# EAGLE library part ATMEGA324*A (library atmel)
8-bit AVR Microcontroller 32 kbytes flash 2k bytes SRAM 1k bytes EEPROM dual USART SPI, I2C 8-channel 10 bit ADC
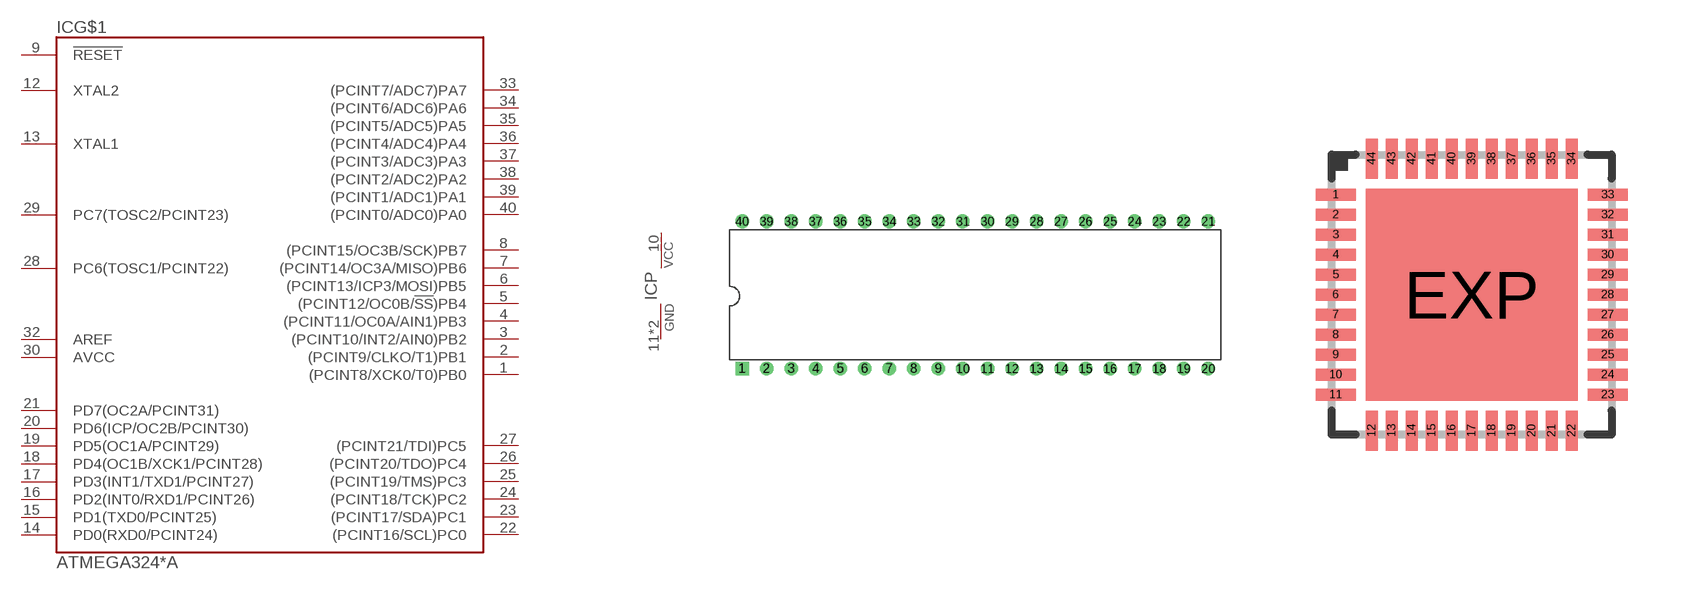
[diagram p52: symbol with the pads of DIL40; footprints DIL40, QFN44_7X7_0.50]

Designator prefix IC; gates G$1=MEGA644A P=PWR

## ATMEGA324A-PU, ATMEGA324PA-PU  [DIL40]
1  G$1:(PCINT8/XCK0/T0)PB0
2  G$1:(PCINT9/CLKO/T1)PB1
3  G$1:(PCINT10/INT2/AIN0)PB2
4  G$1:(PCINT11/OC0A/AIN1)PB3
5  G$1:(PCINT12/OC0B/!SS!)PB4
6  G$1:(PCINT13/ICP3/MOSI)PB5
7  G$1:(PCINT14/OC3A/MISO)PB6
8  G$1:(PCINT15/OC3B/SCK)PB7
9  G$1:!RESET  in
10  P:VCC  pwr
11  P:GND  pwr
12  G$1:XTAL2
13  G$1:XTAL1
14  G$1:PD0(RXD0/PCINT24)
15  G$1:PD1(TXD0/PCINT25)
16  G$1:PD2(INT0/RXD1/PCINT26)
17  G$1:PD3(INT1/TXD1/PCINT27)
18  G$1:PD4(OC1B/XCK1/PCINT28)
19  G$1:PD5(OC1A/PCINT29)
20  G$1:PD6(ICP/OC2B/PCINT30)
21  G$1:PD7(OC2A/PCINT31)
22  G$1:(PCINT16/SCL)PC0
23  G$1:(PCINT17/SDA)PC1
24  G$1:(PCINT18/TCK)PC2
25  G$1:(PCINT19/TMS)PC3
26  G$1:(PCINT20/TDO)PC4
27  G$1:(PCINT21/TDI)PC5
28  G$1:PC6(TOSC1/PCINT22)
29  G$1:PC7(TOSC2/PCINT23)
30  G$1:AVCC  pwr
31  P:GND  pwr
32  G$1:AREF  pas
33  G$1:(PCINT7/ADC7)PA7
34  G$1:(PCINT6/ADC6)PA6
35  G$1:(PCINT5/ADC5)PA5
36  G$1:(PCINT4/ADC4)PA4
37  G$1:(PCINT3/ADC3)PA3
38  G$1:(PCINT2/ADC2)PA2
39  G$1:(PCINT1/ADC1)PA1
40  G$1:(PCINT0/ADC0)PA0

## ATMEGA324PA-PN  [DIL40]
Pads as for DIL40

## ATMEGA324A-MU, ATMEGA324PA-MU  [QFN44_7X7_0.50]
1  G$1:(PCINT13/ICP3/MOSI)PB5
2  G$1:(PCINT14/OC3A/MISO)PB6
3  G$1:(PCINT15/OC3B/SCK)PB7
4  G$1:!RESET  in
5  P:VCC  pwr
6  P:GND  pwr
7  G$1:XTAL2
8  G$1:XTAL1
9  G$1:PD0(RXD0/PCINT24)
10  G$1:PD1(TXD0/PCINT25)
11  G$1:PD2(INT0/RXD1/PCINT26)
12  G$1:PD3(INT1/TXD1/PCINT27)
13  G$1:PD4(OC1B/XCK1/PCINT28)
14  G$1:PD5(OC1A/PCINT29)
15  G$1:PD6(ICP/OC2B/PCINT30)
16  G$1:PD7(OC2A/PCINT31)
17  P:VCC  pwr
18  P:GND  pwr
19  G$1:(PCINT16/SCL)PC0
20  G$1:(PCINT17/SDA)PC1
21  G$1:(PCINT18/TCK)PC2
22  G$1:(PCINT19/TMS)PC3
23  G$1:(PCINT20/TDO)PC4
24  G$1:(PCINT21/TDI)PC5
25  G$1:PC6(TOSC1/PCINT22)
26  G$1:PC7(TOSC2/PCINT23)
27  G$1:AVCC  pwr
28  P:GND  pwr
29  G$1:AREF  pas
30  G$1:(PCINT7/ADC7)PA7
31  G$1:(PCINT6/ADC6)PA6
32  G$1:(PCINT5/ADC5)PA5
33  G$1:(PCINT4/ADC4)PA4
34  G$1:(PCINT3/ADC3)PA3
35  G$1:(PCINT2/ADC2)PA2
36  G$1:(PCINT1/ADC1)PA1
37  G$1:(PCINT0/ADC0)PA0
38  P:VCC  pwr
39  P:GND  pwr
40  G$1:(PCINT8/XCK0/T0)PB0
41  G$1:(PCINT9/CLKO/T1)PB1
42  G$1:(PCINT10/INT2/AIN0)PB2
43  G$1:(PCINT11/OC0A/AIN1)PB3
44  G$1:(PCINT12/OC0B/!SS!)PB4
EXP  P:GND  pwr

## ATMEGA324PA-MN  [QFN44_7X7_0.50]
Pads as for QFN44_7X7_0.50

## ATMEGA324A-AU, ATMEGA324PA-AU  [QFP44_10X10_0.80]
1  G$1:(PCINT13/ICP3/MOSI)PB5
2  G$1:(PCINT14/OC3A/MISO)PB6
3  G$1:(PCINT15/OC3B/SCK)PB7
4  G$1:!RESET  in
5  P:VCC  pwr
6  P:GND  pwr
7  G$1:XTAL2
8  G$1:XTAL1
9  G$1:PD0(RXD0/PCINT24)
10  G$1:PD1(TXD0/PCINT25)
11  G$1:PD2(INT0/RXD1/PCINT26)
12  G$1:PD3(INT1/TXD1/PCINT27)
13  G$1:PD4(OC1B/XCK1/PCINT28)
14  G$1:PD5(OC1A/PCINT29)
15  G$1:PD6(ICP/OC2B/PCINT30)
16  G$1:PD7(OC2A/PCINT31)
17  P:VCC  pwr
18  P:GND  pwr
19  G$1:(PCINT16/SCL)PC0
20  G$1:(PCINT17/SDA)PC1
21  G$1:(PCINT18/TCK)PC2
22  G$1:(PCINT19/TMS)PC3
23  G$1:(PCINT20/TDO)PC4
24  G$1:(PCINT21/TDI)PC5
25  G$1:PC6(TOSC1/PCINT22)
26  G$1:PC7(TOSC2/PCINT23)
27  G$1:AVCC  pwr
28  P:GND  pwr
29  G$1:AREF  pas
30  G$1:(PCINT7/ADC7)PA7
31  G$1:(PCINT6/ADC6)PA6
32  G$1:(PCINT5/ADC5)PA5
33  G$1:(PCINT4/ADC4)PA4
34  G$1:(PCINT3/ADC3)PA3
35  G$1:(PCINT2/ADC2)PA2
36  G$1:(PCINT1/ADC1)PA1
37  G$1:(PCINT0/ADC0)PA0
38  P:VCC  pwr
39  P:GND  pwr
40  G$1:(PCINT8/XCK0/T0)PB0
41  G$1:(PCINT9/CLKO/T1)PB1
42  G$1:(PCINT10/INT2/AIN0)PB2
43  G$1:(PCINT11/OC0A/AIN1)PB3
44  G$1:(PCINT12/OC0B/!SS!)PB4

## ATMEGA324PA-AN  [QFP44_10X10_0.80]
Pads as for QFP44_10X10_0.80

## ATMEGA324A-CU, ATMEGA324PA-CU  [49C2]
A1  P:GND  pwr
A2  G$1:(PCINT12/OC0B/!SS!)PB4
A3  G$1:(PCINT10/INT2/AIN0)PB2
A4  P:GND  pwr
A5  P:VCC  pwr
A6  G$1:(PCINT2/ADC2)PA2
A7  P:GND  pwr
B1  G$1:(PCINT14/OC3A/MISO)PB6
B2  G$1:(PCINT13/ICP3/MOSI)PB5
B3  G$1:(PCINT11/OC0A/AIN1)PB3
B4  G$1:(PCINT8/XCK0/T0)PB0
B5  G$1:(PCINT0/ADC0)PA0
B6  G$1:(PCINT3/ADC3)PA3
B7  G$1:(PCINT5/ADC5)PA5
C1  P:VCC  pwr
C2  G$1:!RESET  in
C3  G$1:(PCINT15/OC3B/SCK)PB7
C4  G$1:(PCINT9/CLKO/T1)PB1
C5  G$1:(PCINT1/ADC1)PA1
C6  G$1:(PCINT6/ADC6)PA6
C7  G$1:AREF  pas
D1  P:GND  pwr
D2  G$1:XTAL2
D3  G$1:PD0(RXD0/PCINT24)
D4  P:GND  pwr
D5  G$1:(PCINT4/ADC4)PA4
D6  G$1:(PCINT7/ADC7)PA7
D7  P:GND  pwr
E1  G$1:XTAL1
E2  G$1:PD1(TXD0/PCINT25)
E3  G$1:PD5(OC1A/PCINT29)
E4  G$1:PD7(OC2A/PCINT31)
E5  G$1:(PCINT21/TDI)PC5
E6  G$1:PC7(TOSC2/PCINT23)
E7  G$1:AVCC  pwr
F1  G$1:PD2(INT0/RXD1/PCINT26)
F2  G$1:PD3(INT1/TXD1/PCINT27)
F3  G$1:PD6(ICP/OC2B/PCINT30)
F4  G$1:(PCINT16/SCL)PC0
F5  G$1:(PCINT18/TCK)PC2
F6  G$1:(PCINT20/TDO)PC4
F7  G$1:PC6(TOSC1/PCINT22)
G1  P:GND  pwr
G2  G$1:PD4(OC1B/XCK1/PCINT28)
G3  P:VCC  pwr
G4  P:GND  pwr
G5  G$1:(PCINT17/SDA)PC1
G6  G$1:(PCINT19/TMS)PC3
G7  P:GND  pwr

## ATMEGA324A-MCH, ATMEGA324PA-MCH  [QFN44-2R_5X5_0.70]
A1  G$1:(PCINT13/ICP3/MOSI)PB5
A2  G$1:(PCINT15/OC3B/SCK)PB7
A3  P:VCC  pwr
A4  G$1:XTAL2
A5  G$1:PD0(RXD0/PCINT24)
A6  G$1:PD2(INT0/RXD1/PCINT26)
A7  G$1:PD3(INT1/TXD1/PCINT27)
A8  G$1:PD5(OC1A/PCINT29)
A9  G$1:PD7(OC2A/PCINT31)
A10  P:GND  pwr
A11  G$1:(PCINT17/SDA)PC1
A12  G$1:(PCINT19/TMS)PC3
A13  G$1:(PCINT20/TDO)PC4
A14  G$1:PC6(TOSC1/PCINT22)
A15  G$1:AVCC  pwr
A16  G$1:AREF  pas
A17  G$1:(PCINT6/ADC6)PA6
A18  G$1:(PCINT4/ADC4)PA4
A19  G$1:(PCINT3/ADC3)PA3
A20  G$1:(PCINT1/ADC1)PA1
A21  P:VCC  pwr
A22  G$1:(PCINT8/XCK0/T0)PB0
A23  G$1:(PCINT10/INT2/AIN0)PB2
A24  G$1:(PCINT12/OC0B/!SS!)PB4
B1  G$1:(PCINT14/OC3A/MISO)PB6
B2  G$1:!RESET  in
B3  P:GND  pwr
B4  G$1:XTAL1
B5  G$1:PD1(TXD0/PCINT25)
B6  G$1:PD4(OC1B/XCK1/PCINT28)
B7  G$1:PD6(ICP/OC2B/PCINT30)
B8  P:VCC  pwr
B9  G$1:(PCINT16/SCL)PC0
B10  G$1:(PCINT18/TCK)PC2
B11  G$1:(PCINT21/TDI)PC5
B12  G$1:PC7(TOSC2/PCINT23)
B13  P:GND  pwr
B14  G$1:(PCINT7/ADC7)PA7
B15  G$1:(PCINT5/ADC5)PA5
B16  G$1:(PCINT2/ADC2)PA2
B17  G$1:(PCINT0/ADC0)PA0
B18  P:GND  pwr
B19  G$1:(PCINT9/CLKO/T1)PB1
B20  G$1:(PCINT11/OC0A/AIN1)PB3
EXP  P:GND  pwr

## Footprint DIL40 (pad centres in mm)
DIL package, pin row distance 600mil
drill 0.8 pad 1.4 square: 1 -24.13,-7.62
drill 0.8 pad 1.4: 2 -21.59,-7.62; 3 -19.05,-7.62; 4 -16.51,-7.62; 5 -13.97,-7.62; 6 -11.43,-7.62; 7 -8.89,-7.62; 8 -6.35,-7.62; 9 -3.81,-7.62; 10 -1.27,-7.62; 11 1.27,-7.62; 12 3.81,-7.62; 13 6.35,-7.62; 14 8.89,-7.62; 15 11.43,-7.62; 16 13.97,-7.62; 17 16.51,-7.62; 18 19.05,-7.62; 19 21.59,-7.62; 20 24.13,-7.62; 21 24.13,7.62; 22 21.59,7.62; 23 19.05,7.62; 24 16.51,7.62; 25 13.97,7.62; 26 11.43,7.62; 27 8.89,7.62; 28 6.35,7.62; 29 3.81,7.62; 30 1.27,7.62; 31 -1.27,7.62; 32 -3.81,7.62; 33 -6.35,7.62; 34 -8.89,7.62; 35 -11.43,7.62; 36 -13.97,7.62; 37 -16.51,7.62; 38 -19.05,7.62; 39 -21.59,7.62; 40 -24.13,7.62

## Footprint QFN44_7X7_0.50 (pad centres in mm)
44-Lead Plastic QFN, 7mm x 7mm body, 0.5mm lead pitch, exposed pad ATMEL Code: 44M1, ZWS
smd 1 x 0.3: 1 -3.4,2.5; 2 -3.4,2; 3 -3.4,1.5; 4 -3.4,1; 5 -3.4,0.5; 6 -3.4,0; 7 -3.4,-0.5; 8 -3.4,-1; 9 -3.4,-1.5; 10 -3.4,-2; 11 -3.4,-2.5; 23 3.4,-2.5; 24 3.4,-2; 25 3.4,-1.5; 26 3.4,-1; 27 3.4,-0.5; 28 3.4,0; 29 3.4,0.5; 30 3.4,1; 31 3.4,1.5; 32 3.4,2; 33 3.4,2.5
smd 0.3 x 1: 12 -2.5,-3.4; 13 -2,-3.4; 14 -1.5,-3.4; 15 -1,-3.4; 16 -0.5,-3.4; 17 0,-3.4; 18 0.5,-3.4; 19 1,-3.4; 20 1.5,-3.4; 21 2,-3.4; 22 2.5,-3.4; 34 2.5,3.4; 35 2,3.4; 36 1.5,3.4; 37 1,3.4; 38 0.5,3.4; 39 0,3.4; 40 -0.5,3.4; 41 -1,3.4; 42 -1.5,3.4; 43 -2,3.4; 44 -2.5,3.4
smd 5.3 x 5.3: EXP 0,0

## Footprint QFP44_10X10_0.80 (pad centres in mm)
Thin Plasic Quad Flat Package, 10mm x 10mm body, 0.80mm lead pitch JEDEC: MS-026 ACB ATMEL Code: 44A
smd 1.5 x 0.55: 1 -5.7,4; 2 -5.7,3.2; 3 -5.7,2.4; 4 -5.7,1.6; 5 -5.7,0.8; 6 -5.7,0; 7 -5.7,-0.8; 8 -5.7,-1.6; 9 -5.7,-2.4; 10 -5.7,-3.2; 11 -5.7,-4; 23 5.7,-4; 24 5.7,-3.2; 25 5.7,-2.4; 26 5.7,-1.6; 27 5.7,-0.8; 28 5.7,0; 29 5.7,0.8; 30 5.7,1.6; 31 5.7,2.4; 32 5.7,3.2; 33 5.7,4
smd 0.55 x 1.5: 12 -4,-5.7; 13 -3.2,-5.7; 14 -2.4,-5.7; 15 -1.6,-5.7; 16 -0.8,-5.7; 17 0,-5.7; 18 0.8,-5.7; 19 1.6,-5.7; 20 2.4,-5.7; 21 3.2,-5.7; 22 4,-5.7; 34 4,5.7; 35 3.2,5.7; 36 2.4,5.7; 37 1.6,5.7; 38 0.8,5.7; 39 0,5.7; 40 -0.8,5.7; 41 -1.6,5.7; 42 -2.4,5.7; 43 -3.2,5.7; 44 -4,5.7

## Footprint 49C2 (pad centres in mm)
fine-pitch Ball Grid Array, 5mm x 5mm body, 0.65mm ball pitch ATMEL Code: 49C2, CBD
smd 0.25 x 0.25: A1 -1.95,1.95; A2 -1.3,1.95; A3 -0.65,1.95; A4 0,1.95; A5 0.65,1.95; A6 1.3,1.95; A7 1.95,1.95; B1 -1.95,1.3; B2 -1.3,1.3; B3 -0.65,1.3; B4 0,1.3; B5 0.65,1.3; B6 1.3,1.3; B7 1.95,1.3; C1 -1.95,0.65; C2 -1.3,0.65; C3 -0.65,0.65; C4 0,0.65; C5 0.65,0.65; C6 1.3,0.65; C7 1.95,0.65; D1 -1.95,0; D2 -1.3,0; D3 -0.65,0; D4 0,0; D5 0.65,0; D6 1.3,0; D7 1.95,0; E1 -1.95,-0.65; E2 -1.3,-0.65; E3 -0.65,-0.65; E4 0,-0.65; E5 0.65,-0.65; E6 1.3,-0.65; E7 1.95,-0.65; F1 -1.95,-1.3; F2 -1.3,-1.3; F3 -0.65,-1.3; F4 0,-1.3; F5 0.65,-1.3; F6 1.3,-1.3; F7 1.95,-1.3; G1 -1.95,-1.95; G2 -1.3,-1.95; G3 -0.65,-1.95; G4 0,-1.95; G5 0.65,-1.95; G6 1.3,-1.95; G7 1.95,-1.95

## Footprint QFN44-2R_5X5_0.70 (pad centres in mm)
44-Lead Plastic QFN, 5mm x 5mm body, 0.70mm lead pitch (2-row staggered), exposed pad ATMEL Code: 44MC
smd 0.65 x 0.32: A1 -2.475,1.75; A2 -2.475,1.05; A3 -2.475,0.35; A4 -2.475,-0.35; A5 -2.475,-1.05; A6 -2.475,-1.75; A13 2.475,-1.75; A14 2.475,-1.05; A15 2.475,-0.35; A16 2.475,0.35; A17 2.475,1.05; A18 2.475,1.75
smd 0.32 x 0.65: A7 -1.75,-2.475; A8 -1.05,-2.475; A9 -0.35,-2.475; A10 0.35,-2.475; A11 1.05,-2.475; A12 1.75,-2.475; A19 1.75,2.475; A20 1.05,2.475; A21 0.35,2.475; A22 -0.35,2.475; A23 -1.05,2.475; A24 -1.75,2.475
smd 0.49 x 0.32: B1 -1.925,1.4; B2 -1.925,0.7; B3 -1.925,0; B4 -1.925,-0.7; B5 -1.925,-1.4; B11 1.925,-1.4; B12 1.925,-0.7; B13 1.925,0; B14 1.925,0.7; B15 1.925,1.4
smd 0.32 x 0.49: B6 -1.4,-1.925; B7 -0.7,-1.925; B8 0,-1.925; B9 0.7,-1.925; B10 1.4,-1.925; B16 1.4,1.925; B17 0.7,1.925; B18 0,1.925; B19 -0.7,1.925; B20 -1.4,1.925
smd 2.7 x 2.7: EXP 0,0